# Altium footprint library AB0001.01.A.3.PcbLib: 1 footprints
Each footprint in its own frame and in the unit in brackets; x right, y up, seen from the top. Pads: shape width x height; smd on the part's side, far side on the other; paste and mask are expansions set on the pad; w line width, h text height; cw(c..) or ccw(c..) is an arc to the next point about the centre after c.
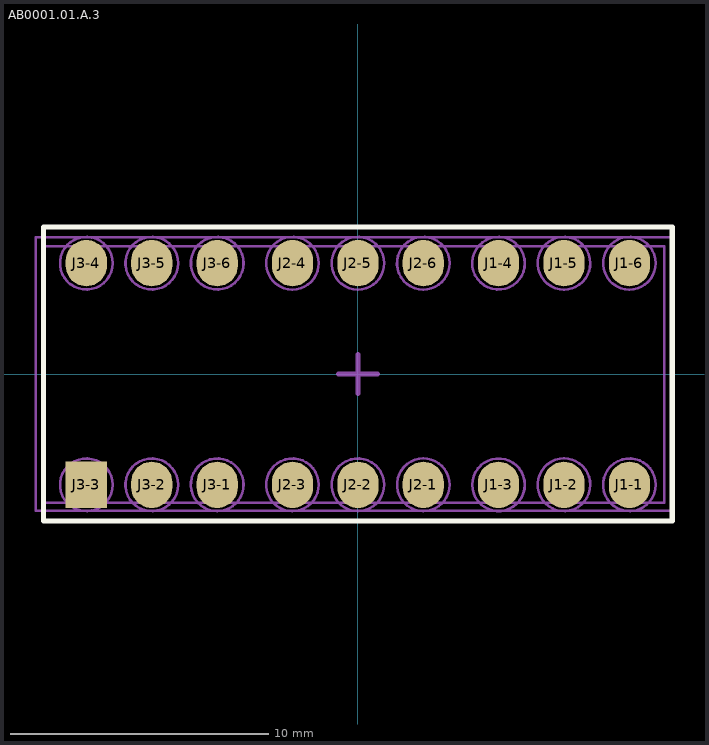
[diagram p0: the footprint, top view; thin cyan lines are the x and y axes]

## AB0001.01.A.3 [mm]
pads (18):
  oval 1.6x1.8 smd: J1-1(10.54,-4.3) J1-2(8,-4.3) J1-3(5.46,-4.3) J1-4(5.46,4.3) J1-5(8,4.3) J1-6(10.54,4.3) J2-1(2.54,-4.3) J2-2(0,-4.3) J2-3(-2.54,-4.3) J2-4(-2.54,4.3) J2-5(0,4.3) J2-6(2.54,4.3) J3-1(-5.46,-4.3) J3-2(-8,-4.3) J3-4(-10.54,4.3) J3-5(-8,4.3) J3-6(-5.46,4.3)
  rect 1.6x1.8 smd: J3-3(-10.54,-4.3)
Top Overlay:
  lines w0.2: -12.2,-5.7 -12.2,-5 -12.2,5 -12.2,5.5 -12.2,5.7 12.2,5.7 12.2,-5 12.2,-5.5 12.2,-5.7 -12.2,-5.7
Mechanical 13:
  circle w0.1: c-10.54,4.3 r1.022
  circle w0.1: c-8,4.3 r1.022
  circle w0.1: c-10.54,-4.3 r1.022
  circle w0.1: c-8,-4.3 r1.022
  circle w0.1: c-5.46,4.3 r1.022
  circle w0.1: c-8,4.3 r1.022
  lines w0.1: -12.201,-5 11.9,-5 11.9,4.953 -12.201,4.953 -12.201,-5 ; -5.46,-5.322 ccw(c-5.46,-4.3) -4.438,-4.3 ccw(c-5.46,-4.3) -5.46,-5.322 ; -2.54,-5.322 ccw(c-2.54,-4.3) -1.518,-4.3 ccw(c-2.54,-4.3) -2.54,-5.322 ; -2.54,3.278 ccw(c-2.54,4.3) -1.518,4.3 ccw(c-2.54,4.3) -2.54,3.278 ; 0,-5.322 ccw(c0,-4.3) 1.022,-4.3 ccw(c0,-4.3) 0,-5.322 ; 0,3.278 ccw(c0,4.3) 1.022,4.3 ccw(c0,4.3) 0,3.278 ; 2.54,-5.322 ccw(c2.54,-4.3) 3.562,-4.3 ccw(c2.54,-4.3) 2.54,-3.278 ccw(c2.54,-4.3) 2.54,-5.322 ; 2.54,3.278 ccw(c2.54,4.3) 3.562,4.3 ccw(c2.54,4.3) 2.54,3.278 ; 4.658,-4.933 ccw(c5.46,-4.3) 6.482,-4.3 ccw(c5.46,-4.3) 4.658,-3.667 ccw(c5.46,-4.3) 4.658,-4.933 ; 5.562,3.283 ccw(c5.46,4.3) 6.482,4.3 ccw(c5.46,4.3) 5.562,3.283 ; 8,-3.278 ccw(c8,-4.3) 9.022,-4.3 ccw(c8,-4.3) 8,-3.278 ; 8,3.278 ccw(c8,4.3) 9.022,4.3 ccw(c8,4.3) 8,3.278 ; 10.54,3.278 ccw(c10.54,4.3) 11.562,4.3 ccw(c10.54,4.3) 10.54,3.278 ; 10.6,-3.28 ccw(c10.54,-4.3) 11.562,-4.3 ccw(c10.54,-4.3) 10.6,-3.28
  lines w0.2: -0.75,0 0,0 ; 0,-0.75 0,0 ; 0,0.75 0,0 ; 0.75,0 0,0
  text "UP" at -0.8,5.9 h1.52
Mechanical 15:
  lines w0.1: -12.5,-5.3 -12.5,5.3 12.2,5.3 12.2,-5.3 -12.5,-5.3